# EAGLE library part ADSP-BF592KCPZ-2 (library DSPs)
IC DSP CTRLR 200MHZ 64LFCSP Manufacturer's datasheet <https://www.analog.com/media/en/technical-documentation/data-sheets/ADSP-BF592.pdf>
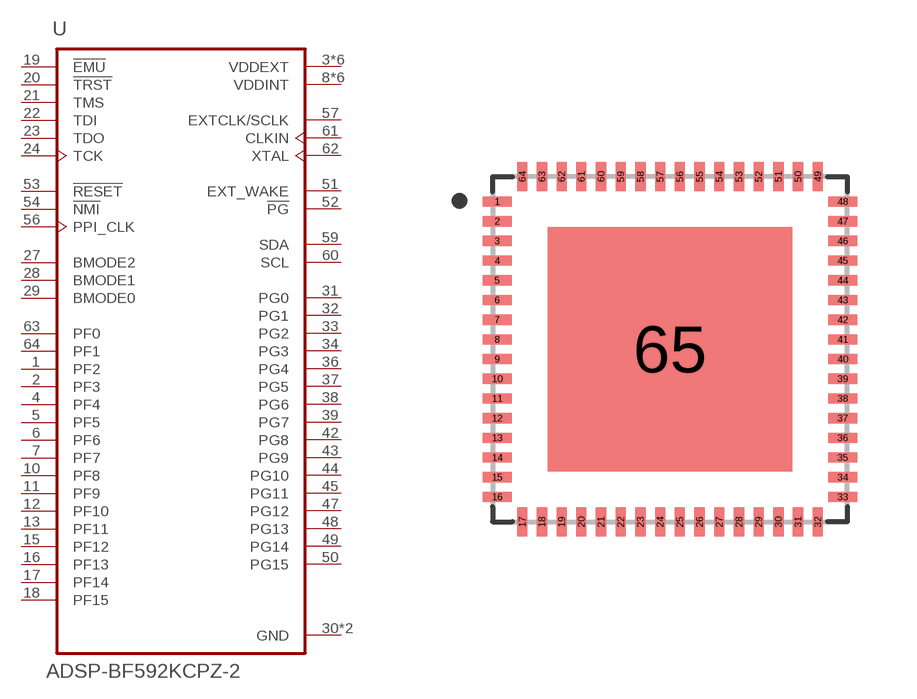
[diagram p10: symbol with the pads of LFCSP-64; footprint LFCSP-64]

Designator prefix U

## ADSP-BF592KCPZ-2 (CREATED_BY: PCBLayout.com; DIGIKEY_PN: ADSP-BF592KCPZ-2-ND; MANUFACTURER: Analog Devices Inc.; MPN: ADSP-BF592KCPZ-2; PACKAGE: LFCSP-64)  [LFCSP-64]
1  PF2
2  PF3
3  VDDEXT  pwr
4  PF4
5  PF5
6  PF6
7  PF7
8  VDDINT  pwr
9  VDDINT  pwr
10  PF8
11  PF9
12  PF10
13  PF11
14  VDDEXT  pwr
15  PF12
16  PF13
17  PF14
18  PF15
19  !EMU  out
20  !TRST  in
21  TMS  in
22  TDI  in
23  TDO  out
24  TCK  in
25  VDDEXT  pwr
26  VDDINT  pwr
27  BMODE2  in
28  BMODE1  in
29  BMODE0  in
30  GND  pwr
31  PG0
32  PG1
33  PG2
34  PG3
35  VDDEXT  pwr
36  PG4
37  PG5
38  PG6
39  PG7
40  VDDINT  pwr
41  VDDINT  pwr
42  PG8
43  PG9
44  PG10
45  PG11
46  VDDEXT  pwr
47  PG12
48  PG13
49  PG14
50  PG15
51  EXT_WAKE  out
52  !PG  in
53  !RESET  in
54  !NMI  in
55  VDDINT  pwr
56  PPI_CLK  in
57  EXTCLK/SCLK  out
58  VDDEXT  pwr
59  SDA
60  SCL
61  CLKIN  in
62  XTAL  out
63  PF0
64  PF1
65  GND  pwr

## Footprint LFCSP-64 (pad centres in mm)
smd 0.74 x 0.26: 1 -4.385,3.75; 2 -4.385,3.25; 3 -4.385,2.75; 4 -4.385,2.25; 5 -4.385,1.75; 6 -4.385,1.25; 7 -4.385,0.75; 8 -4.385,0.25; 9 -4.385,-0.25; 10 -4.385,-0.75; 11 -4.385,-1.25; 12 -4.385,-1.75; 13 -4.385,-2.25; 14 -4.385,-2.75; 15 -4.385,-3.25; 16 -4.385,-3.75; 33 4.385,-3.75; 34 4.385,-3.25; 35 4.385,-2.75; 36 4.385,-2.25; 37 4.385,-1.75; 38 4.385,-1.25; 39 4.385,-0.75; 40 4.385,-0.25; 41 4.385,0.25; 42 4.385,0.75; 43 4.385,1.25; 44 4.385,1.75; 45 4.385,2.25; 46 4.385,2.75; 47 4.385,3.25; 48 4.385,3.75
smd 0.26 x 0.74: 17 -3.75,-4.385; 18 -3.25,-4.385; 19 -2.75,-4.385; 20 -2.25,-4.385; 21 -1.75,-4.385; 22 -1.25,-4.385; 23 -0.75,-4.385; 24 -0.25,-4.385; 25 0.25,-4.385; 26 0.75,-4.385; 27 1.25,-4.385; 28 1.75,-4.385; 29 2.25,-4.385; 30 2.75,-4.385; 31 3.25,-4.385; 32 3.75,-4.385; 49 3.75,4.385; 50 3.25,4.385; 51 2.75,4.385; 52 2.25,4.385; 53 1.75,4.385; 54 1.25,4.385; 55 0.75,4.385; 56 0.25,4.385; 57 -0.25,4.385; 58 -0.75,4.385; 59 -1.25,4.385; 60 -1.75,4.385; 61 -2.25,4.385; 62 -2.75,4.385; 63 -3.25,4.385; 64 -3.75,4.385
smd 6.2 x 6.2: 65 0,0